# EAGLE library part MKW01Z128 (library low-gain-radio)
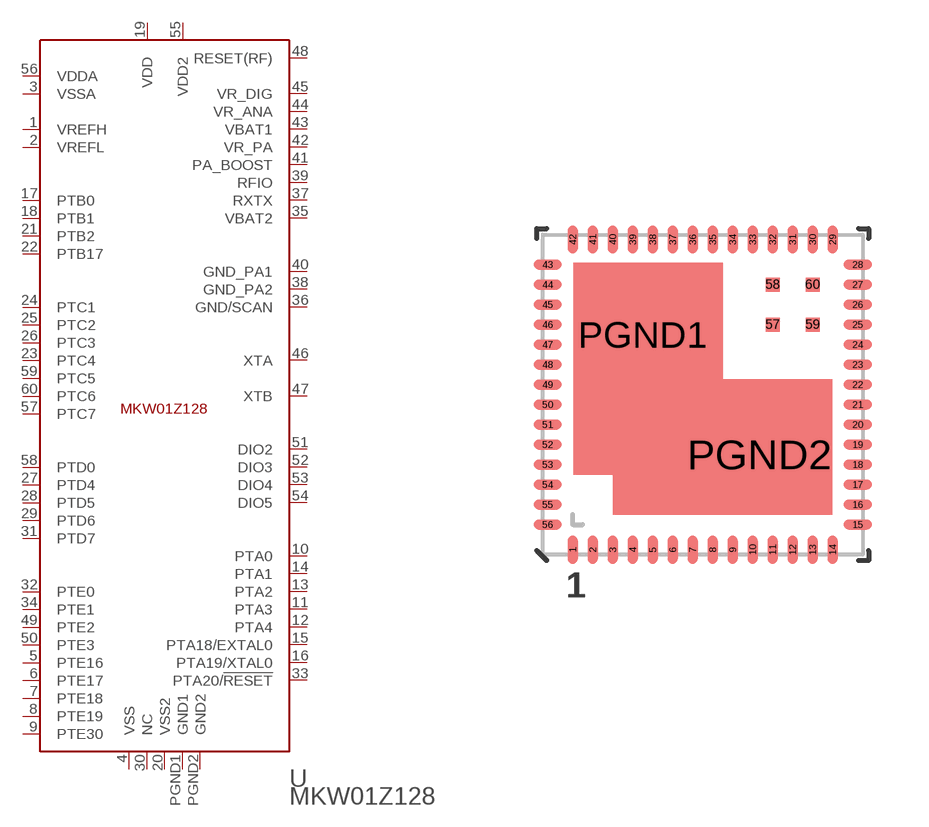
[diagram p4: symbol with the pads of MKW01Z128; footprint MKW01Z128]

Designator prefix -

## MKW01Z128  [MKW01Z128]
1  VREFH  in
2  VREFL  in
3  VSSA  pwr
4  VSS  pwr
5  PTE16
6  PTE17
7  PTE18
8  PTE19
9  PTE30
10  PTA0
11  PTA3
12  PTA4
13  PTA2
14  PTA1
15  PTA18/EXTAL0
16  PTA19/XTAL0
17  PTB0
18  PTB1
19  VDD  pwr
20  VSS2  pwr
21  PTB2
22  PTB17
23  PTC4
24  PTC1
25  PTC2
26  PTC3
27  PTD4
28  PTD5
29  PTD6
30  NC  nc
31  PTD7
32  PTE0
33  PTA20/!RESET
34  PTE1
35  VBAT2  pwr
36  GND/SCAN  pwr
37  RXTX  out
38  GND_PA2  pwr
39  RFIO
40  GND_PA1  pwr
41  PA_BOOST  out
42  VR_PA  out
43  VBAT1  pwr
44  VR_ANA  out
45  VR_DIG  out
46  XTA  pas
47  XTB  pas
48  RESET(RF)  in
49  PTE2
50  PTE3
51  DIO2
52  DIO3
53  DIO4
54  DIO5
55  VDD2  pwr
56  VDDA  pwr
57  PTC7
58  PTD0
59  PTC5
60  PTC6
PGND1  GND1  pwr
PGND2  GND2  pwr

## Footprint MKW01Z128 (pad centres in mm)
smd 0.254 x 0.711: 1 -3.25,-3.878; 2 -2.75,-3.878; 3 -2.25,-3.878; 4 -1.75,-3.878; 5 -1.25,-3.878; 6 -0.75,-3.878; 7 -0.25,-3.878; 8 0.25,-3.878; 9 0.75,-3.878; 10 1.25,-3.878; 11 1.75,-3.878; 12 2.25,-3.878; 13 2.75,-3.878; 14 3.25,-3.878; 29 3.25,3.878; 30 2.75,3.878; 31 2.25,3.878; 32 1.75,3.878; 33 1.25,3.878; 34 0.75,3.878; 35 0.25,3.878; 36 -0.25,3.878; 37 -0.75,3.878; 38 -1.25,3.878; 39 -1.75,3.878; 40 -2.25,3.878; 41 -2.75,3.878; 42 -3.25,3.878
smd 0.711 x 0.254: 15 3.878,-3.25; 16 3.878,-2.75; 17 3.878,-2.25; 18 3.878,-1.75; 19 3.878,-1.25; 20 3.878,-0.75; 21 3.878,-0.25; 22 3.878,0.25; 23 3.878,0.75; 24 3.878,1.25; 25 3.878,1.75; 26 3.878,2.25; 27 3.878,2.75; 28 3.878,3.25; 43 -3.878,3.25; 44 -3.878,2.75; 45 -3.878,2.25; 46 -3.878,1.75; 47 -3.878,1.25; 48 -3.878,0.75; 49 -3.878,0.25; 50 -3.878,-0.25; 51 -3.878,-0.75; 52 -3.878,-1.25; 53 -3.878,-1.75; 54 -3.878,-2.25; 55 -3.878,-2.75; 56 -3.878,-3.25
smd 0.356 x 0.356: 57 1.75,1.75; 58 1.75,2.75; 59 2.75,1.75; 60 2.75,2.75
smd 2.5 x 2.5: PGND1 -1.5,1.5
smd 2.8 x 2.7: PGND2 1.42,-1.5